# Altium footprint library SC_ESOIC16.PcbLib: 1 footprints
Each footprint in its own frame and in the unit in brackets; x right, y up, seen from the top. Pads: shape width x height; smd on the part's side, far side on the other; paste and mask are expansions set on the pad; w line width, h text height; cw(c..) or ccw(c..) is an arc to the next point about the centre after c.
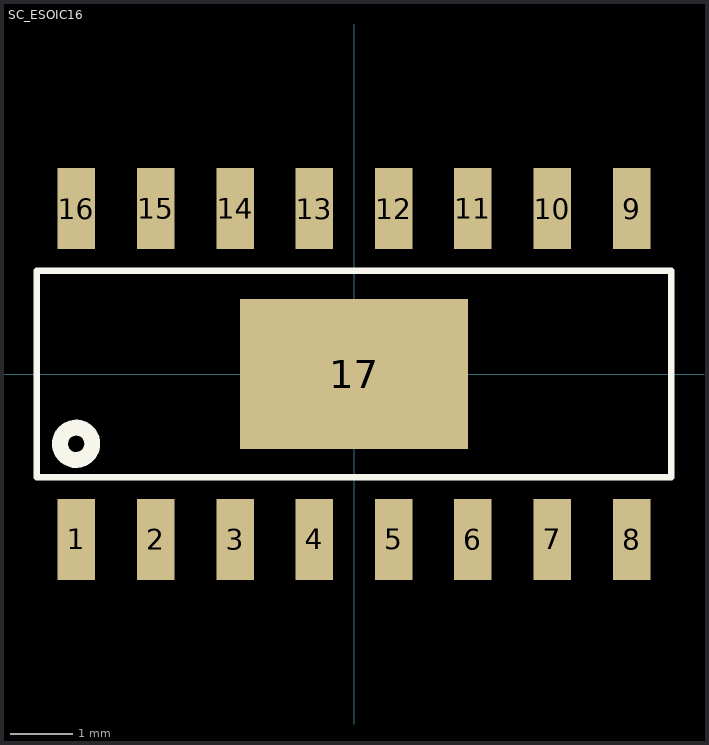
[diagram p0: the footprint, top view; thin cyan lines are the x and y axes]

## SC_ESOIC16 [mm] "SOIC 16 with exposed pad"
pads (17):
  rect 0.6x1.3 smd: 1(-4.445,-2.65) 2(-3.175,-2.65) 3(-1.905,-2.65) 4(-0.635,-2.65) 5(0.635,-2.65) 6(1.905,-2.65) 7(3.175,-2.65) 8(4.445,-2.65) 9(4.445,2.65) 10(3.175,2.65) 11(1.905,2.65) 12(0.635,2.65) 13(-0.635,2.65) 14(-1.905,2.65) 15(-3.175,2.65) 16(-4.445,2.65)
  rect 3.65x2.4 smd: 17(0,0)
Top Overlay:
  circle w0.254: c-4.45,-1.118 r0.259
  lines w0.102: -5.08,-1.651 -5.08,1.651 5.08,1.651 5.08,-1.651 -5.08,-1.651
3D body: height 1.76, standoff 0, extent -4.985,-3.068 4.985,3.068